# Altium footprint library DRV8304HRHAT.PcbLib: 2 footprints
Each footprint in its own frame and in the unit in brackets; x right, y up, seen from the top. Pads: shape width x height; smd on the part's side, far side on the other; paste and mask are expansions set on the pad; w line width, h text height; cw(c..) or ccw(c..) is an arc to the next point about the centre after c.
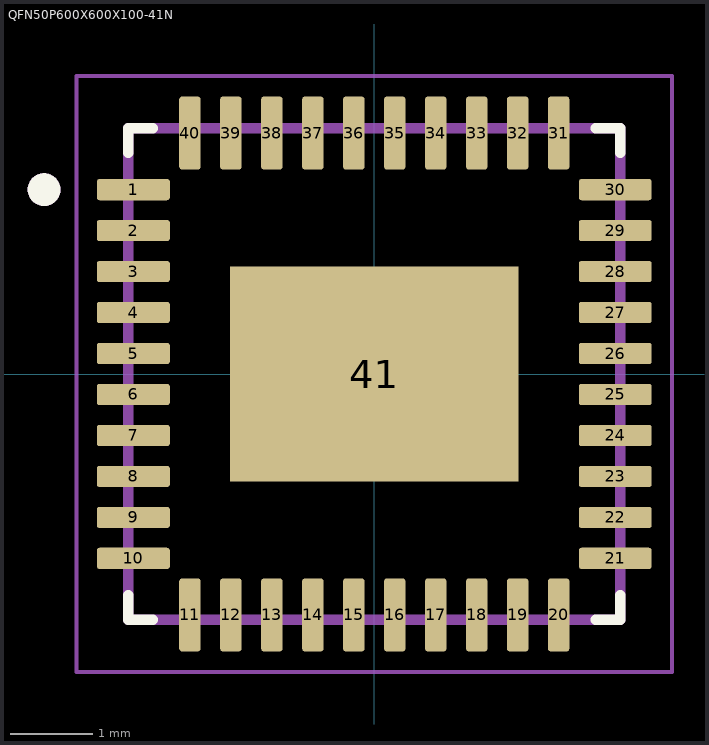
[diagram p0: the footprints below, top view; thin cyan lines are the x and y axes]

## PCBComponent_1 [mm]

## QFN50P600X600X100-41N [mm]
pads (41):
  rrect25% 0.89x0.26 smd: 1(-2.94,2.25) 2(-2.94,1.75) 3(-2.94,1.25) 4(-2.94,0.75) 5(-2.94,0.25) 6(-2.94,-0.25) 7(-2.94,-0.75) 8(-2.94,-1.25) 9(-2.94,-1.75) 10(-2.94,-2.25) 21(2.94,-2.25) 22(2.94,-1.75) 23(2.94,-1.25) 24(2.94,-0.75) 25(2.94,-0.25) 26(2.94,0.25) 27(2.94,0.75) 28(2.94,1.25) 29(2.94,1.75) 30(2.94,2.25)
  rrect25% 0.26x0.89 smd: 11(-2.25,-2.94) 12(-1.75,-2.94) 13(-1.25,-2.94) 14(-0.75,-2.94) 15(-0.25,-2.94) 16(0.25,-2.94) 17(0.75,-2.94) 18(1.25,-2.94) 19(1.75,-2.94) 20(2.25,-2.94) 31(2.25,2.94) 32(1.75,2.94) 33(1.25,2.94) 34(0.75,2.94) 35(0.25,2.94) 36(-0.25,2.94) 37(-0.75,2.94) 38(-1.25,2.94) 39(-1.75,2.94) 40(-2.25,2.94)
  rect 3.52x2.62 smd paste-3: 41(0,0)
Top Overlay:
  circle w0.2: c-4.03,2.25 r0.1
  lines w0.127: -3,-2.7 -3,-3 -2.7,-3 ; -3,2.7 -3,3 -2.7,3 ; 2.7,-3 3,-3 3,-2.7 ; 2.7,3 3,3 3,2.7
Mechanical 13:
  circle w0.2: c-4.03,2.25 r0.1
  lines w0.127: -3,-3 -3,3 3,3 3,-3 -3,-3
Mechanical 15:
  lines w0.05: -3.635,-3.635 -3.635,3.635 3.635,3.635 3.635,-3.635 -3.635,-3.635
3D body "step_temp.STEP": height 1, standoff 0, extent -3,-3 3,3